# Altium footprint library Silicon Labs.PcbLib: 7 footprints
Each footprint in its own frame and in the unit in brackets; x right, y up, seen from the top. Pads: shape width x height; smd on the part's side, far side on the other; paste and mask are expansions set on the pad; w line width, h text height; cw(c..) or ccw(c..) is an arc to the next point about the centre after c.
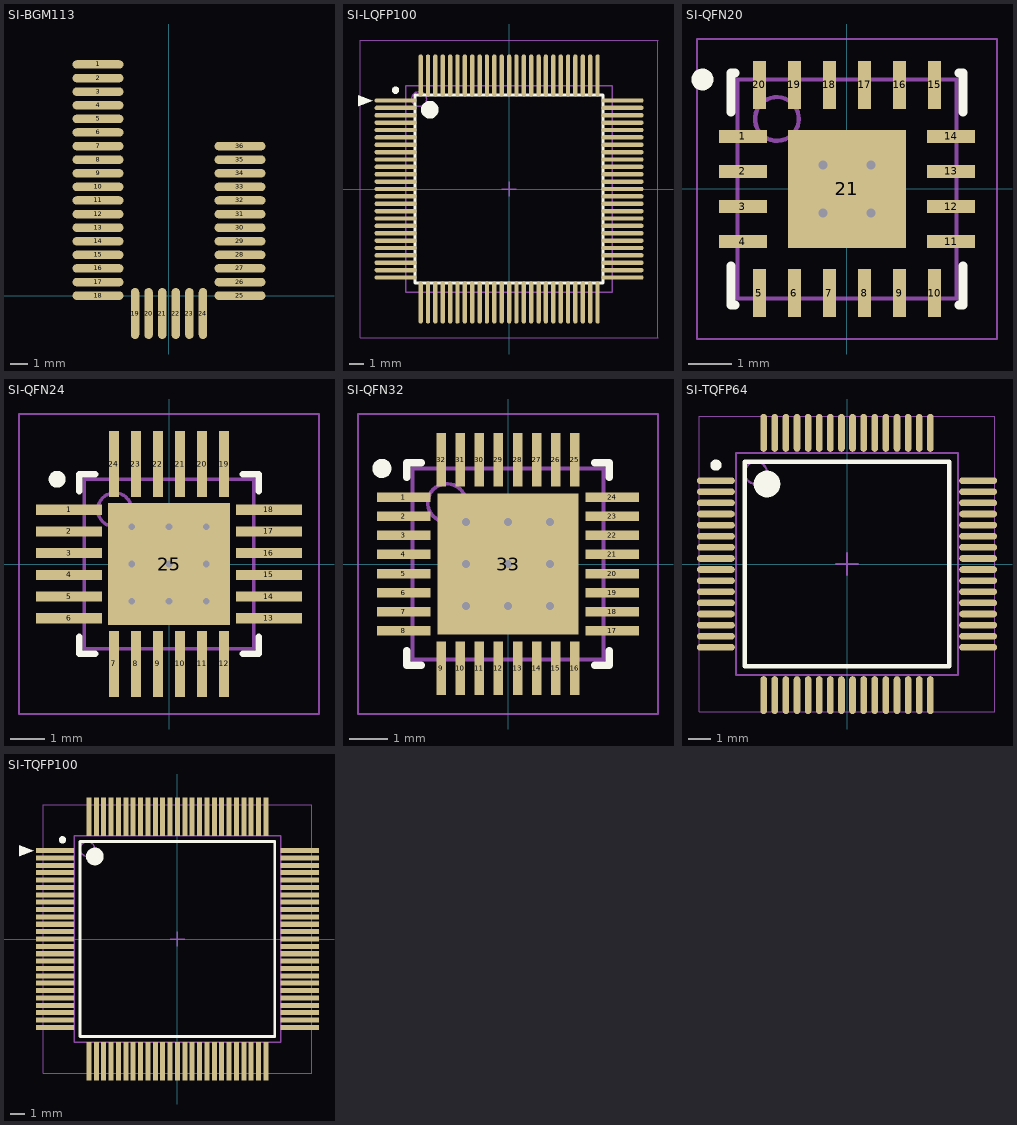
[diagram p0: the footprints below, top view; thin cyan lines are the x and y axes]

## SI-BGM113 [mm]
pads (36):
  oval 3x0.5 smd: 1(-4.175,13.6) 2(-4.175,12.8) 3(-4.175,12) 4(-4.175,11.2) 5(-4.175,10.4) 6(-4.175,9.6) 7(-4.175,8.8) 8(-4.175,8) 9(-4.175,7.2) 10(-4.175,6.4) 11(-4.175,5.6) 12(-4.175,4.8) 13(-4.175,4) 14(-4.175,3.2) 15(-4.175,2.4) 16(-4.175,1.6) 17(-4.175,0.8) 18(-4.175,0) 25(4.175,0) 26(4.175,0.8) 27(4.175,1.6) 28(4.175,2.4) 29(4.175,3.2) 30(4.175,4) 31(4.175,4.8) 32(4.175,5.6) 33(4.175,6.4) 34(4.175,7.2) 35(4.175,8) 36(4.175,8.8)
  oval 0.5x3 smd: 19(-2,-1.05) 20(-1.2,-1.05) 21(-0.4,-1.05) 22(0.4,-1.05) 23(1.2,-1.05) 24(2,-1.05)
3D body "User Library-BGM113.SLDPRT": height 1.9, standoff 0, extent -4.575,-1.45 4.575,14.28

## SI-LQFP100 [mm]
pads (100):
  oval 2.85x0.297 smd: 1(-7.7,6) 2(-7.7,5.5) 3(-7.7,5) 4(-7.7,4.5) 5(-7.7,4) 6(-7.7,3.5) 7(-7.7,3) 8(-7.7,2.5) 9(-7.7,2) 10(-7.7,1.5) 11(-7.7,1) 12(-7.7,0.5) 13(-7.7,0) 14(-7.7,-0.5) 15(-7.7,-1) 16(-7.7,-1.5) 17(-7.7,-2) 18(-7.7,-2.5) 19(-7.7,-3) 20(-7.7,-3.5) 21(-7.7,-4) 22(-7.7,-4.5) 23(-7.7,-5) 24(-7.7,-5.5) 25(-7.7,-6) 51(7.7,-6) 52(7.7,-5.5) 53(7.7,-5) 54(7.7,-4.5) 55(7.7,-4) 56(7.7,-3.5) 57(7.7,-3) 58(7.7,-2.5) 59(7.7,-2) 60(7.7,-1.5) 61(7.7,-1) 62(7.7,-0.5) 63(7.7,0) 64(7.7,0.5) 65(7.7,1) 66(7.7,1.5) 67(7.7,2) 68(7.7,2.5) 69(7.7,3) 70(7.7,3.5) 71(7.7,4) 72(7.7,4.5) 73(7.7,5) 74(7.7,5.5) 75(7.7,6)
  oval 0.297x2.85 smd: 26(-6,-7.7) 27(-5.5,-7.7) 28(-5,-7.7) 29(-4.5,-7.7) 30(-4,-7.7) 31(-3.5,-7.7) 32(-3,-7.7) 33(-2.5,-7.7) 34(-2,-7.7) 35(-1.5,-7.7) 36(-1,-7.7) 37(-0.5,-7.7) 38(0,-7.7) 39(0.5,-7.7) 40(1,-7.7) 41(1.5,-7.7) 42(2,-7.7) 43(2.5,-7.7) 44(3,-7.7) 45(3.5,-7.7) 46(4,-7.7) 47(4.5,-7.7) 48(5,-7.7) 49(5.5,-7.7) 50(6,-7.7) 76(6,7.7) 77(5.5,7.7) 78(5,7.7) 79(4.5,7.7) 80(4,7.7) 81(3.5,7.7) 82(3,7.7) 83(2.5,7.7) 84(2,7.7) 85(1.5,7.7) 86(1,7.7) 87(0.5,7.7) 88(0,7.7) 89(-0.5,7.7) 90(-1,7.7) 91(-1.5,7.7) 92(-2,7.7) 93(-2.5,7.7) 94(-3,7.7) 95(-3.5,7.7) 96(-4,7.7) 97(-4.5,7.7) 98(-5,7.7) 99(-5.5,7.7) 100(-6,7.7)
Top Overlay:
  circle w0.6: c-5.375,5.375 r0.3
  circle w0.25: c-7.7,6.7 r0.125
  region: -9.23,5.991 -10.246,6.372 -10.246,5.61
  lines w0.2: -6.375,-6.375 6.375,-6.375 6.375,6.375 -6.375,6.375 -6.375,-6.375
Mechanical 13:
  circle w0.1: c-6.1,6.1 r0.5
  lines w0.1: -7,-7 7,-7 7,7 -7,7 -7,-7
Mechanical 15:
  lines w0.05: -10.1,-10.1 10.1,-10.1 10.1,10.1 -10.1,10.1 -10.1,-10.1
  lines w0.1: -0.5,0 0.5,0 ; 0,-0.5 0,0.5
3D body: height 1.6, standoff 0.05, extent -7,-7 7,7

## SI-QFN20 [mm] "QFN, 20-Leads, Body 5.00x5.00mm, Pitch 0.80mm, Thermal Pad 2.70x2.70mm, IPC Low Density"
height 0.9
pads (21):
  rect 1.1x0.3 smd: 1(-2.375,1.2) 2(-2.375,0.4) 3(-2.375,-0.4) 4(-2.375,-1.2) 11(2.375,-1.2) 12(2.375,-0.4) 13(2.375,0.4) 14(2.375,1.2)
  rect 0.3x1.1 smd: 5(-2,-2.375) 6(-1.2,-2.375) 7(-0.4,-2.375) 8(0.4,-2.375) 9(1.2,-2.375) 10(2,-2.375) 15(2,2.375) 16(1.2,2.375) 17(0.4,2.375) 18(-0.4,2.375) 19(-1.2,2.375) 20(-2,2.375)
  rect 2.7x2.7 smd: 21(0,0)
via -0.55,0.55 diameter 0.5 hole 0.2
via 0.55,0.55 diameter 0.5 hole 0.2
via -0.55,-0.55 diameter 0.5 hole 0.2
via 0.55,-0.55 diameter 0.5 hole 0.2
Top Overlay:
  circle w0.25: c-3.3,2.5 r0.125
  lines w0.2: -2.65,-1.75 -2.65,-2.65 -2.55,-2.65 ; -2.65,1.75 -2.65,2.65 -2.55,2.65 ; 2.55,-2.65 2.65,-2.65 2.65,-1.75 ; 2.55,2.65 2.65,2.65 2.65,1.75
Mechanical 13:
  circle w0.1: c-1.6,1.6 r0.5
  lines w0.1: -2.5,-2.5 -2.5,2.5 2.5,2.5 2.5,-2.5 -2.5,-2.5
Mechanical 15:
  lines w0.05: -3.425,-3.425 -3.425,3.425 3.425,3.425 3.425,-3.425 -3.425,-3.425
  lines w0.1: -0.5,0 0.5,0 ; 0,-0.5 0,0.5
3D body "SI-QFN20.step": height 0.9, standoff 0, extent -2.501,-2.501 2.501,2.501

## SI-QFN24 [mm] "QFN, 24-Leads, Body 5.00x5.00mm, Pitch 0.65mm/0.64mm, Thermal Pad 3.60x3.60mm, IPC Low Density"
height 0.9
pads (25):
  rect 1.95x0.3 smd: 1(-2.95,1.6) 2(-2.95,0.96) 3(-2.95,0.32) 4(-2.95,-0.32) 5(-2.95,-0.96) 6(-2.95,-1.6) 13(2.95,-1.6) 14(2.95,-0.96) 15(2.95,-0.32) 16(2.95,0.32) 17(2.95,0.96) 18(2.95,1.6)
  rect 0.3x1.95 smd: 7(-1.625,-2.95) 8(-0.975,-2.95) 9(-0.325,-2.95) 10(0.325,-2.95) 11(0.975,-2.95) 12(1.625,-2.95) 19(1.625,2.95) 20(0.975,2.95) 21(0.325,2.95) 22(-0.325,2.95) 23(-0.975,2.95) 24(-1.625,2.95)
  rect 3.6x3.6 smd: 25(0,0)
via -1.1,1.1 diameter 0.5 hole 0.2
via 0,1.1 diameter 0.5 hole 0.2
via 1.1,1.1 diameter 0.5 hole 0.2
via -1.1,0 diameter 0.5 hole 0.2
via 0,0 diameter 0.5 hole 0.2
via 1.1,0 diameter 0.5 hole 0.2
via -1.1,-1.1 diameter 0.5 hole 0.2
via 0,-1.1 diameter 0.5 hole 0.2
via 1.1,-1.1 diameter 0.5 hole 0.2
Top Overlay:
  circle w0.25: c-3.3,2.5 r0.125
  lines w0.2: -2.65,-2.15 -2.65,-2.65 -2.175,-2.65 ; -2.65,2.15 -2.65,2.65 -2.175,2.65 ; 2.175,-2.65 2.65,-2.65 2.65,-2.15 ; 2.175,2.65 2.65,2.65 2.65,2.15
Mechanical 13:
  circle w0.1: c-1.6,1.6 r0.5
  lines w0.1: -2.5,-2.5 -2.5,2.5 2.5,2.5 2.5,-2.5 -2.5,-2.5
Mechanical 15:
  lines w0.05: -4.425,-4.425 -4.425,4.425 4.425,4.425 4.425,-4.425 -4.425,-4.425
  lines w0.1: -0.5,0 0.5,0 ; 0,-0.5 0,0.5
3D body "SI-QFN24.step": height 0.9, standoff 0, extent -2.501,-2.501 2.501,2.501

## SI-QFN32 [mm] "QFN, 32-Leads, Body 5.00x5.00mm, Pitch 0.50mm, Thermal Pad 3.70x3.70mm, IPC Low Density"
height 0.8
pads (33):
  rect 1.4x0.25 smd: 1(-2.725,1.75) 2(-2.725,1.25) 3(-2.725,0.75) 4(-2.725,0.25) 5(-2.725,-0.25) 6(-2.725,-0.75) 7(-2.725,-1.25) 8(-2.725,-1.75) 17(2.725,-1.75) 18(2.725,-1.25) 19(2.725,-0.75) 20(2.725,-0.25) 21(2.725,0.25) 22(2.725,0.75) 23(2.725,1.25) 24(2.725,1.75)
  rect 0.25x1.4 smd: 9(-1.75,-2.725) 10(-1.25,-2.725) 11(-0.75,-2.725) 12(-0.25,-2.725) 13(0.25,-2.725) 14(0.75,-2.725) 15(1.25,-2.725) 16(1.75,-2.725) 25(1.75,2.725) 26(1.25,2.725) 27(0.75,2.725) 28(0.25,2.725) 29(-0.25,2.725) 30(-0.75,2.725) 31(-1.25,2.725) 32(-1.75,2.725)
  rect 3.7x3.7 smd: 33(0,0)
via -1.1,1.1 diameter 0.5 hole 0.2
via 0,1.1 diameter 0.5 hole 0.2
via 1.1,1.1 diameter 0.5 hole 0.2
via -1.1,0 diameter 0.5 hole 0.2
via 0,0 diameter 0.5 hole 0.2
via 1.1,0 diameter 0.5 hole 0.2
via -1.1,-1.1 diameter 0.5 hole 0.2
via 0,-1.1 diameter 0.5 hole 0.2
via 1.1,-1.1 diameter 0.5 hole 0.2
Top Overlay:
  circle w0.25: c-3.3,2.5 r0.125
  lines w0.2: -2.65,-2.275 -2.65,-2.65 -2.275,-2.65 ; -2.65,2.275 -2.65,2.65 -2.275,2.65 ; 2.275,-2.65 2.65,-2.65 2.65,-2.275 ; 2.275,2.65 2.65,2.65 2.65,2.275
Mechanical 13:
  circle w0.1: c-1.6,1.6 r0.5
  lines w0.1: -2.5,-2.5 -2.5,2.5 2.5,2.5 2.5,-2.5 -2.5,-2.5
Mechanical 15:
  lines w0.05: -3.925,-3.925 -3.925,3.925 3.925,3.925 3.925,-3.925 -3.925,-3.925
  lines w0.1: -0.5,0 0.5,0 ; 0,-0.5 0,0.5
3D body "SI-QFN32.step": height 0.8, standoff 0, extent -2.501,-2.501 2.501,2.501

## SI-TQFP64 [mm] "TSQFP, 64-Leads, Body 10.00x10.00mm, Pitch 0.50mm, IPC Medium Density"
height 1.2
pads (64):
  oval 1.7x0.3 smd: 1(-5.9,3.75) 2(-5.9,3.25) 3(-5.9,2.75) 4(-5.9,2.25) 5(-5.9,1.75) 6(-5.9,1.25) 7(-5.9,0.75) 8(-5.9,0.25) 9(-5.9,-0.25) 10(-5.9,-0.75) 11(-5.9,-1.25) 12(-5.9,-1.75) 13(-5.9,-2.25) 14(-5.9,-2.75) 15(-5.9,-3.25) 16(-5.9,-3.75) 33(5.9,-3.75) 34(5.9,-3.25) 35(5.9,-2.75) 36(5.9,-2.25) 37(5.9,-1.75) 38(5.9,-1.25) 39(5.9,-0.75) 40(5.9,-0.25) 41(5.9,0.25) 42(5.9,0.75) 43(5.9,1.25) 44(5.9,1.75) 45(5.9,2.25) 46(5.9,2.75) 47(5.9,3.25) 48(5.9,3.75)
  oval 0.3x1.7 smd: 17(-3.75,-5.9) 18(-3.25,-5.9) 19(-2.75,-5.9) 20(-2.25,-5.9) 21(-1.75,-5.9) 22(-1.25,-5.9) 23(-0.75,-5.9) 24(-0.25,-5.9) 25(0.25,-5.9) 26(0.75,-5.9) 27(1.25,-5.9) 28(1.75,-5.9) 29(2.25,-5.9) 30(2.75,-5.9) 31(3.25,-5.9) 32(3.75,-5.9) 49(3.75,5.9) 50(3.25,5.9) 51(2.75,5.9) 52(2.25,5.9) 53(1.75,5.9) 54(1.25,5.9) 55(0.75,5.9) 56(0.25,5.9) 57(-0.25,5.9) 58(-0.75,5.9) 59(-1.25,5.9) 60(-1.75,5.9) 61(-2.25,5.9) 62(-2.75,5.9) 63(-3.25,5.9) 64(-3.75,5.9)
Top Overlay:
  circle w0.25: c-5.9,4.45 r0.125
  circle w0.6: c-3.6,3.6 r0.3
  lines w0.2: -4.6,-4.6 -4.6,4.6 4.6,4.6 4.6,-4.6 -4.6,-4.6
Mechanical 13:
  circle w0.1: c-4.1,4.1 r0.5
  lines w0.1: -5,-5 -5,5 5,5 5,-5 -5,-5
Mechanical 15:
  lines w0.05: -6.65,-6.65 -6.65,6.65 6.65,6.65 6.65,-6.65 -6.65,-6.65
  lines w0.1: -0.5,0 0.5,0 ; 0,-0.5 0,0.5
3D body "TSQFP50P1200X1200X120-64N.step": height 1.2, standoff 0, extent -6,-6 6,6

## SI-TQFP100 [mm] "TSQFP, 100-Leads, Body 14.00x14.00mm, Pitch 0.50mm, IPC Low Density"
height 1.2
pads (100):
  rect 2.6x0.34 smd: 1(-8.3,6) 2(-8.3,5.5) 3(-8.3,5) 4(-8.3,4.5) 5(-8.3,4) 6(-8.3,3.5) 7(-8.3,3) 8(-8.3,2.5) 9(-8.3,2) 10(-8.3,1.5) 11(-8.3,1) 12(-8.3,0.5) 13(-8.3,0) 14(-8.3,-0.5) 15(-8.3,-1) 16(-8.3,-1.5) 17(-8.3,-2) 18(-8.3,-2.5) 19(-8.3,-3) 20(-8.3,-3.5) 21(-8.3,-4) 22(-8.3,-4.5) 23(-8.3,-5) 24(-8.3,-5.5) 25(-8.3,-6) 51(8.3,-6) 52(8.3,-5.5) 53(8.3,-5) 54(8.3,-4.5) 55(8.3,-4) 56(8.3,-3.5) 57(8.3,-3) 58(8.3,-2.5) 59(8.3,-2) 60(8.3,-1.5) 61(8.3,-1) 62(8.3,-0.5) 63(8.3,0) 64(8.3,0.5) 65(8.3,1) 66(8.3,1.5) 67(8.3,2) 68(8.3,2.5) 69(8.3,3) 70(8.3,3.5) 71(8.3,4) 72(8.3,4.5) 73(8.3,5) 74(8.3,5.5) 75(8.3,6)
  rect 0.34x2.6 smd: 26(-6,-8.3) 27(-5.5,-8.3) 28(-5,-8.3) 29(-4.5,-8.3) 30(-4,-8.3) 31(-3.5,-8.3) 32(-3,-8.3) 33(-2.5,-8.3) 34(-2,-8.3) 35(-1.5,-8.3) 36(-1,-8.3) 37(-0.5,-8.3) 38(0,-8.3) 39(0.5,-8.3) 40(1,-8.3) 41(1.5,-8.3) 42(2,-8.3) 43(2.5,-8.3) 44(3,-8.3) 45(3.5,-8.3) 46(4,-8.3) 47(4.5,-8.3) 48(5,-8.3) 49(5.5,-8.3) 50(6,-8.3) 76(6,8.3) 77(5.5,8.3) 78(5,8.3) 79(4.5,8.3) 80(4,8.3) 81(3.5,8.3) 82(3,8.3) 83(2.5,8.3) 84(2,8.3) 85(1.5,8.3) 86(1,8.3) 87(0.5,8.3) 88(0,8.3) 89(-0.5,8.3) 90(-1,8.3) 91(-1.5,8.3) 92(-2,8.3) 93(-2.5,8.3) 94(-3,8.3) 95(-3.5,8.3) 96(-4,8.3) 97(-4.5,8.3) 98(-5,8.3) 99(-5.5,8.3) 100(-6,8.3)
Top Overlay:
  circle w0.6: c-5.6,5.6 r0.3
  circle w0.25: c-7.8,6.725 r0.125
  region: -9.73,5.991 -10.746,6.372 -10.746,5.61
  lines w0.2: -6.6,-6.6 6.6,-6.6 6.6,6.6 -6.6,6.6 -6.6,-6.6
Mechanical 13:
  circle w0.1: c-6.1,6.1 r0.5
  lines w0.1: -7,-7 7,-7 7,7 -7,7 -7,-7
Mechanical 15:
  lines w0.05: -9.1,-9.1 9.1,-9.1 9.1,9.1 -9.1,9.1 -9.1,-9.1
  lines w0.1: -0.5,0 0.5,0 ; 0,-0.5 0,0.5
3D body "SI-TQFP100.step": height 1.2, standoff 0, extent -8,-8 8,8